# Altium footprint library RF_Cape.PcbLib: 19 footprints (part 2 of 2)
Each footprint in its own frame and in the unit in brackets; x right, y up, seen from the top. Pads: shape width x height; smd on the part's side, far side on the other; paste and mask are expansions set on the pad; w line width, h text height; cw(c..) or ccw(c..) is an arc to the next point about the centre after c.
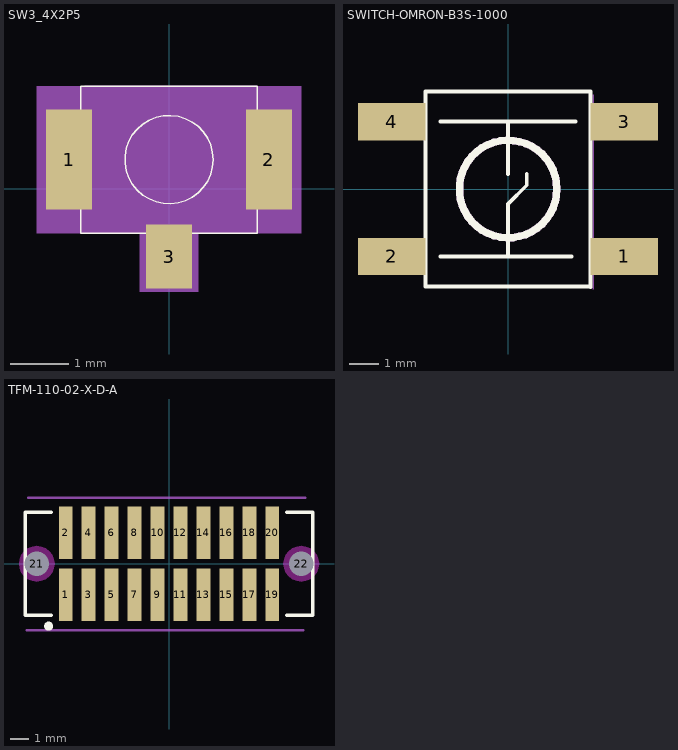
[diagram p1: the footprints below, top view; thin cyan lines are the x and y axes]

## SW3_4X2P5 [mil]
pads (3):
  rect 31x67 smd: 1(-66.93,19.68) 2(66.93,19.68)
  rect 31x43 smd: 3(0,-45.28)
Top Overlay:
  circle w1: c0,19.68 r29.53
  lines w1: -59.06,-29.53 -59.06,68.89 59.06,68.89 59.06,-29.53 0,-29.53 -59.06,-29.53
  text ".Designator" at -135,7.18 h28
Mechanical 14:
  text "1" at -81.02,7.87 h25
  text "3" at -11.14,-57.09 h25
  text "2" at 55.79,11.81 h25
Mechanical 16:
  region: -88.58,68.89 -88.58,-29.53 -19.69,-29.53 -19.69,-68.9 19.69,-68.9 19.69,-29.53 88.58,-29.53 88.58,68.89
  lines w1: -59.06,-16.81 -59.06,-29.53 -18.49,-29.53 ; -59.06,56.17 -59.06,66.76 ; -56.34,68.89 59.06,68.89 59.06,56.17 ; 18.49,-29.53 59.06,-29.53 59.06,-16.81 ; -29.53,19.68 cw(c0,19.68) 0,49.21 cw(c0,19.68) 29.53,19.68 cw(c0,19.68) 0,-9.85 cw(c0,19.68) -29.53,19.68
  text "B3U-1100" at 25,82.18 h29.9

## SWITCH-OMRON-B3S-1000 [mil]
pads (4):
  rect 90x50 smd: 1(155,-90) 2(-155,-90) 3(155,90) 4(-155,90)
Top Overlay:
  circle w10: c0.19,-0.01 r65
  lines w5: -90,-90 85,-90 ; -90,90 90,90 ; 0,-90 0,-20 25,5 25,20 ; 0,20 0,90 ; 110,-131 110,129 ; 110,-130 -110,-130 -110,130 110,130
Mechanical 2:
  circle w10: c0.19,-0.01 r65
  lines w2: 110,-130 -110,-130 -110,130 110,130 ; 114,-134 114,126
  text ".Designator" at -24,106 h50
3D body: height 39.37, standoff 0, extent -115,-135 115,135
3D body: height 78.74, standoff 0, extent -65.1,-65.31 65.49,65.28

## TFM-110-02-X-D-A [mm] "1.27mm pitch, 20 pin, terminal strip; w/alignment pins, SMT"
height 5.715
pads (22):
  rect 0.75x2.9 smd mask+0: 1(-5.715,-1.714) 2(-5.715,1.714) 3(-4.445,-1.714) 4(-4.445,1.714) 5(-3.175,-1.714) 6(-3.175,1.714) 7(-1.905,-1.714) 8(-1.905,1.714) 9(-0.635,-1.714) 10(-0.635,1.714) 11(0.635,-1.714) 12(0.635,1.714) 13(1.905,-1.714) 14(1.905,1.714) 15(3.175,-1.714) 16(3.175,1.714) 17(4.445,-1.714) 18(4.445,1.714) 19(5.715,-1.714) 20(5.715,1.714)
  round 1 hole 1.35 unplated mask+0: 21(-7.302,0) 22(7.302,0)
Top Overlay:
  circle w0.25: c-6.65,-3.45 r0.125
  lines w0.2: -6.5,-2.85 -7.95,-2.85 -7.95,2.85 -6.5,2.85 ; 6.5,-2.85 7.95,-2.85 7.95,2.85 6.5,2.85
Keep-Out Layer:
  pour cut-out: 8.286,0 8.253,0.255 8.154,0.492 7.998,0.695 7.794,0.852 7.557,0.95 7.303,0.983 7.048,0.95 6.811,0.852 6.607,0.695 6.451,0.492 6.353,0.255 6.319,0 6.353,-0.255 6.451,-0.492 6.607,-0.695 6.811,-0.852 7.048,-0.95 7.303,-0.983 7.557,-0.95 7.794,-0.852 7.998,-0.695 8.154,-0.492 8.253,-0.255
  pour cut-out: -6.319,0 -6.353,0.255 -6.451,0.492 -6.607,0.695 -6.811,0.852 -7.048,0.95 -7.303,0.983 -7.557,0.95 -7.794,0.852 -7.998,0.695 -8.154,0.492 -8.253,0.255 -8.286,0 -8.253,-0.255 -8.154,-0.492 -7.998,-0.695 -7.794,-0.852 -7.557,-0.95 -7.303,-0.983 -7.048,-0.95 -6.811,-0.852 -6.607,-0.695 -6.451,-0.492 -6.353,-0.255
Mechanical 15:
  lines w0.127: -7.874,-3.683 7.432,-3.683 ; -7.78,3.65 7.526,3.65
  text "1" at -6.858,-5.461 h1.52
3D body: height 6, standoff 0, extent -8.509,2.159 8.509,3.683
3D body: height 6, standoff 0, extent -8.509,-3.683 8.509,-2.159
3D body: height 6, standoff 0, extent -8.509,-2.159 -7.493,2.159
3D body: height 6, standoff 0, extent 7.493,-2.159 8.509,2.159